# Altium footprint library RC500封装.PCBLIB: 1 footprints
Each footprint in its own frame and in the unit in brackets; x right, y up, seen from the top. Pads: shape width x height; smd on the part's side, far side on the other; paste and mask are expansions set on the pad; w line width, h text height; cw(c..) or ccw(c..) is an arc to the next point about the centre after c.
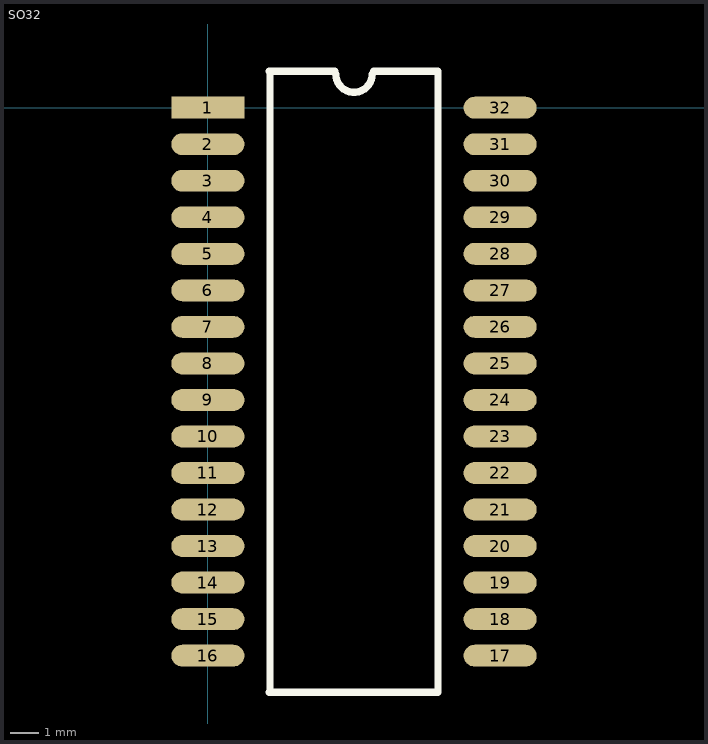
[diagram p0: the footprint, top view; thin cyan lines are the x and y axes]

## SO32 [mil]
pads (32):
  rect 100x30 smd: 1(0,0)
  oval 100x30 smd: 2(0,-50) 3(0,-100) 4(0,-150) 5(0,-200) 6(0,-250) 7(0,-300) 8(0,-350) 9(0,-400) 10(0,-450) 11(0,-500) 12(0,-550) 13(0,-600) 14(0,-650) 15(0,-700) 16(0,-750) 17(400,-750) 18(400,-700) 19(400,-650) 20(400,-600) 21(400,-550) 22(400,-500) 23(400,-450) 24(400,-400) 25(400,-350) 26(400,-300) 27(400,-250) 28(400,-200) 29(400,-150) 30(400,-100) 31(400,-50) 32(400,0)
Top Overlay:
  lines w10: 84,-800 315,-800 315,50 227,50 ; 84,50 174,50 ; 85,-800 85,50 ; 175,46 ccw(c200,46) 225,46